# Altium footprint library ST-Microelectronics Footprints.PcbLib: 320 footprints (part 6 of 20)
Each footprint in its own frame and in the unit in brackets; x right, y up, seen from the top. Pads: shape width x height; smd on the part's side, far side on the other; paste and mask are expansions set on the pad; w line width, h text height; cw(c..) or ccw(c..) is an arc to the next point about the centre after c.
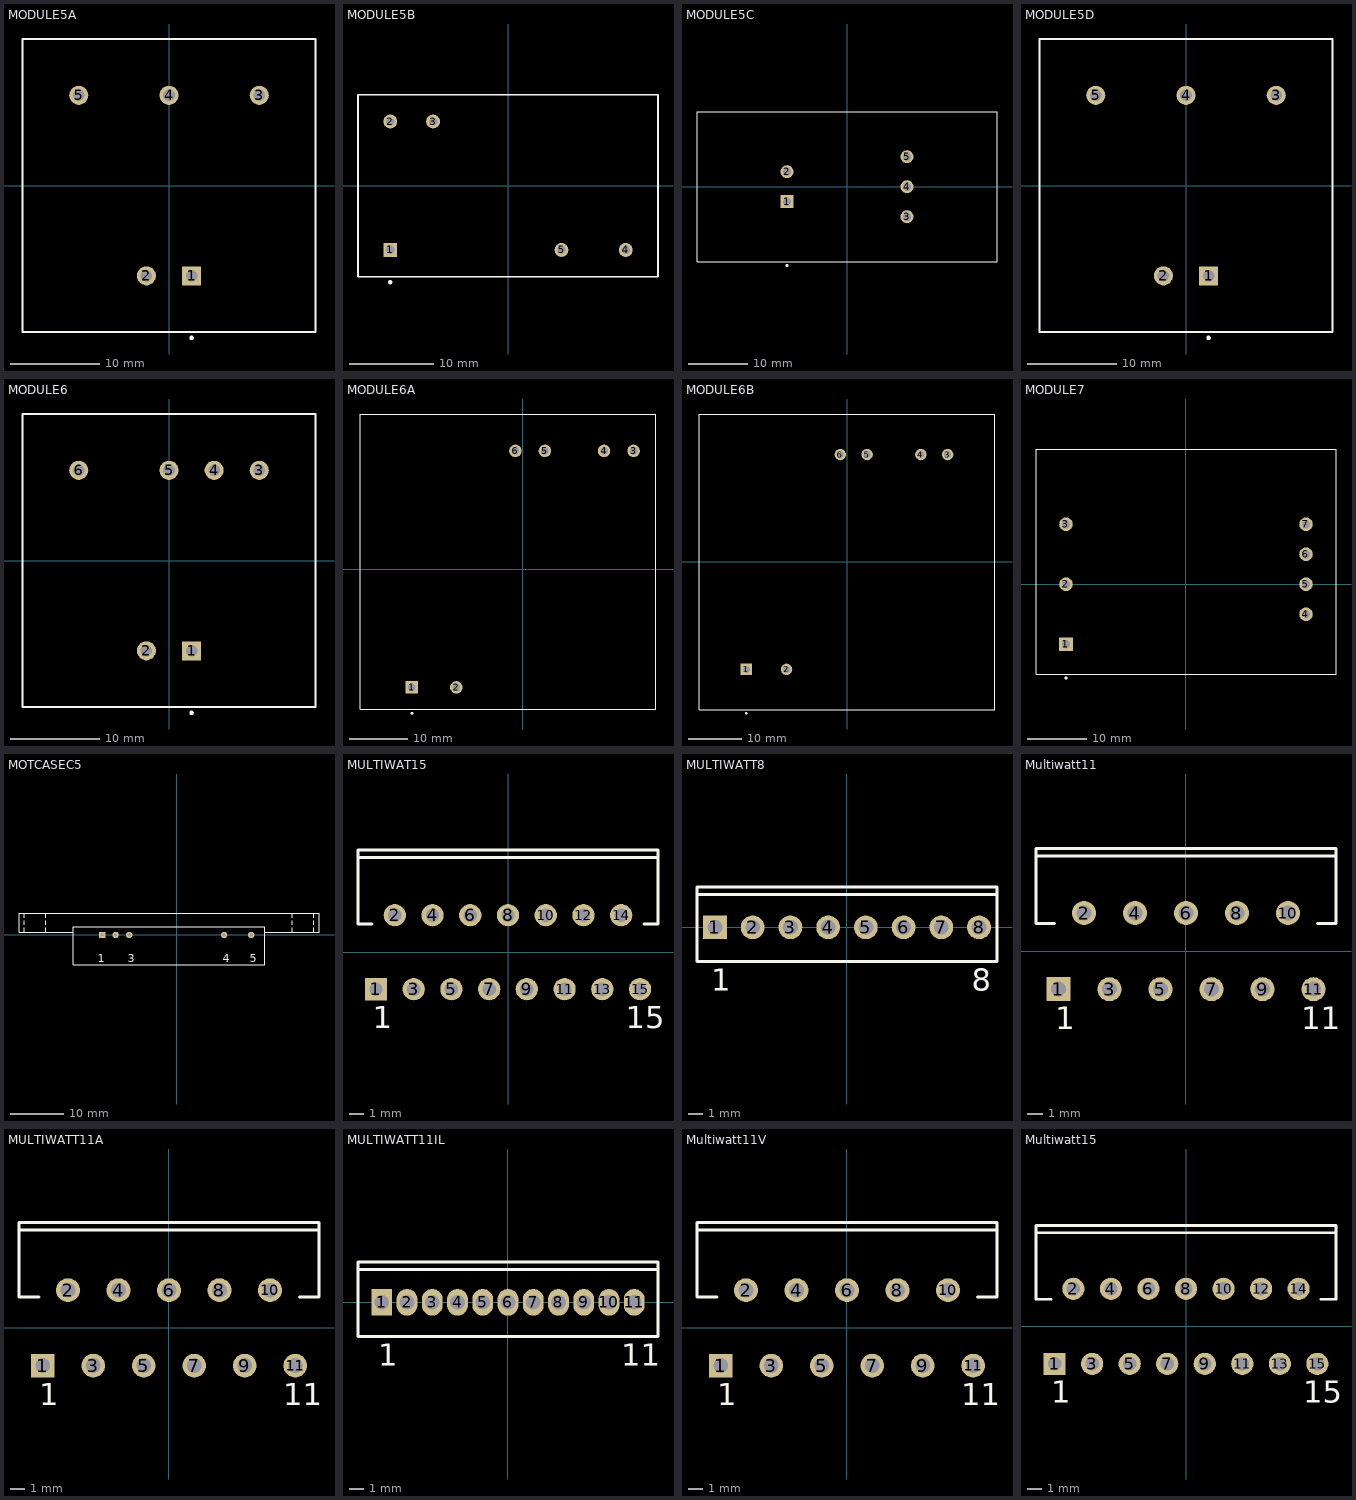
[diagram p5: the footprints below, top view; thin cyan lines are the x and y axes]

## MODULE5A [mm] "DIP; 5 Round Pins; Row Space 20.32 mm; Pitch 2.54 mm"
height 12.7
pads (5):
  rect 2.15x2.15 hole 1.3: 1(2.54,-10.16)
  round 2.15 hole 1.3: 2(-2.54,-10.16) 3(10.16,10.16) 4(0,10.16) 5(-10.16,10.16)
Top Overlay:
  circle w0.25: c2.54,-17.15 r0.125
  lines w0.2: -16.5,-16.5 16.5,-16.5 16.5,16.5 -16.5,16.5 -16.5,-16.5

## MODULE5B [mm] "DIP; 5 Round Pins; Row Space 15.24 mm; Pitch 2.54 mm"
height 14
pads (5):
  rect 1.65x1.65 hole 1: 1(-13.97,-7.62)
  round 1.65 hole 1: 2(-13.97,7.62) 3(-8.89,7.62) 4(13.97,-7.62) 5(6.35,-7.62)
Top Overlay:
  circle w0.25: c-13.97,-11.45 r0.125
  lines w0.2: -17.8,-10.8 17.8,-10.8 17.8,10.8 -17.8,10.8 -17.8,-10.8

## MODULE5C [mm] "DIP; 5 Round Pins; Row Space 20.32 mm; Pitch 2.54 mm"
height 12
pads (5):
  rect 2.2x2.2 hole 1.4: 1(-10.16,-2.54)
  round 2.2 hole 1.4: 2(-10.16,2.54) 3(10.16,-5.08) 4(10.16,0) 5(10.16,5.08)
Top Overlay:
  circle w0.25: c-10.16,-13.35 r0.125
  lines w0.2: -25.4,-12.7 -25.4,12.7 25.4,12.7 25.4,-12.7 -25.4,-12.7

## MODULE5D [mm] "DIP; 5 Round Pins; Row Space 20.32 mm; Pitch 2.54 mm"
height 16.5
pads (5):
  rect 2.15x2.15 hole 1.3: 1(2.54,-10.16)
  round 2.15 hole 1.3: 2(-2.54,-10.16) 3(10.16,10.16) 4(0,10.16) 5(-10.16,10.16)
Top Overlay:
  circle w0.25: c2.54,-17.15 r0.125
  lines w0.2: -16.5,-16.5 16.5,-16.5 16.5,16.5 -16.5,16.5 -16.5,-16.5

## MODULE6 [mm] "DIP; 6 Round Pins; Row Space 20.32 mm; Pitch 2.54 mm"
height 16.5
pads (6):
  rect 2.15x2.15 hole 1.3: 1(2.54,-10.16)
  round 2.15 hole 1.3: 2(-2.54,-10.16) 3(10.16,10.16) 4(5.08,10.16) 5(0,10.16) 6(-10.16,10.16)
Top Overlay:
  circle w0.25: c2.54,-17.15 r0.125
  lines w0.2: -16.5,-16.5 -16.5,16.5 16.5,16.5 16.5,-16.5 -16.5,-16.5

## MODULE6A [mm] "DIP; 6 Round Pins; Row Space 40.64 mm; Pitch 2.54 mm"
height 18
pads (6):
  rect 2.15x2.15 hole 1.3: 1(-19.05,-20.32)
  round 2.15 hole 1.3: 2(-11.43,-20.32) 3(19.05,20.32) 4(13.97,20.32) 5(3.81,20.32) 6(-1.27,20.32)
Top Overlay:
  circle w0.25: c-19.05,-24.78 r0.125
  lines w0.2: -27.94,-24.13 -27.94,26.67 22.86,26.67 22.86,-24.13 -27.94,-24.13

## MODULE6B [mm] "DIP; 6 Round Pins; Row Space 40.64 mm; Pitch 2.54 mm"
height 18
pads (6):
  rect 2.15x2.15 hole 1.3: 1(-19.05,-20.32)
  round 2.15 hole 1.3: 2(-11.43,-20.32) 3(19.05,20.32) 4(13.97,20.32) 5(3.81,20.32) 6(-1.27,20.32)
Top Overlay:
  circle w0.25: c-19.05,-28.65 r0.125
  lines w0.2: -28,-28 28,-28 28,28 -28,28 -28,-28

## MODULE7 [mm] "DIP; 7 Round Pins; Row Space 40.64 mm; Pitch 5.08 mm"
height 19
pads (7):
  rect 2.3x2.3 hole 1.4: 1(-20.32,-10.16)
  round 2.3 hole 1.4: 2(-20.32,0) 3(-20.32,10.16) 4(20.32,-5.08) 5(20.32,0) 6(20.32,5.08) 7(20.32,10.16)
Top Overlay:
  circle w0.25: c-20.32,-15.89 r0.125
  lines w0.2: -25.4,-15.24 25.4,-15.24 25.4,22.86 -25.4,22.86 -25.4,-15.24

## MOTCASEC5 [mm] "Rectangular Flange Mount, Thru-Hole; 5 Leads; Pitch 2.54 mm"
height 19.6
pads (5):
  rect 1.2x1.2 hole 0.6: 1(-13.97,0)
  round 1.2 hole 0.6: 2(-11.43,0) 3(-8.89,0) 4(8.89,0) 5(13.97,0)
Top Overlay:
  lines w0.2: -28.53,0.55 -28.53,1.35 ; -28.53,1.9 -28.53,2.7 ; -28.53,3.25 -28.53,4.05 ; -24.53,0.55 -24.53,1.35 ; -24.53,1.9 -24.53,2.7 ; -24.53,3.25 -24.53,4.05 ; -19.38,0.55 -29.53,0.55 -29.53,4.05 26.67,4.05 26.67,0.55 16.52,0.55 ; 21.67,0.55 21.67,1.35 ; 21.67,1.9 21.67,2.7 ; 21.67,3.25 21.67,4.05 ; 25.67,0.55 25.67,1.35 ; 25.67,1.9 25.67,2.7 ; 25.67,3.25 25.67,4.05 ; -19.38,-5.55 16.52,-5.55 16.52,1.55 -19.38,1.55 -19.38,-5.55
  text "1" at -14.732,-5.08 h1.5
  text "3" at -9.144,-5.08 h1.5
  text "4" at 8.636,-5.08 h1.5
  text "5" at 13.716,-5.08 h1.5

## MULTIWAT15 [mm] "TO, Thru-Hole, Vertical, Heatsink Mounted; 15 Bent Staggered Leads; Pitch 1.27 mm"
height 21
pads (15):
  rect 1.5x1.5 hole 0.9: 1(-8.89,-2.49)
  round 1.5 hole 0.9: 2(-7.62,2.49) 3(-6.35,-2.49) 4(-5.08,2.49) 5(-3.81,-2.49) 6(-2.54,2.49) 7(-1.27,-2.49) 8(0,2.49) 9(1.27,-2.49) 10(2.54,2.49) 11(3.81,-2.49) 12(5.08,2.49) 13(6.35,-2.49) 14(7.62,2.49) 15(8.89,-2.49)
Top Overlay:
  lines w0.2: -10.1,6.39 10.1,6.39 ; -9.144,1.89 -10.1,1.89 -10.1,6.89 10.1,6.89 10.1,1.89 9.144,1.89
  text "15" at 7.94,-5.115 h1.5
  text "1" at -9.12,-5.115 h1.5

## MULTIWATT8 [mm] "TO, Thru-Hole, Vertical, Heatsink Mounted; 8 In-Line Leads; Pitch 2.54 mm"
height 20.5
pads (8):
  rect 1.6x1.6 hole 1: 1(-8.89,0)
  round 1.6 hole 1: 2(-6.35,0) 3(-3.81,0) 4(-1.27,0) 5(1.27,0) 6(3.81,0) 7(6.35,0) 8(8.89,0)
Top Overlay:
  lines w0.2: -10.1,2.2 10.1,2.2 ; -10.1,-2.3 10.1,-2.3 10.1,2.7 -10.1,2.7 -10.1,-2.3
  text "1" at -9.14,-4.275 h1.5
  text "8" at 8.39,-4.275 h1.5

## Multiwatt11 [mm] "TO, Thru-Hole, Vertical, Heatsink Mounted; 11 Bent Staggered Leads; Pitch 1.7 mm"
height 21
pads (11):
  rect 1.6x1.6 hole 1: 1(-8.5,-2.54)
  round 1.6 hole 1: 2(-6.8,2.54) 3(-5.1,-2.54) 4(-3.4,2.54) 5(-1.7,-2.54) 6(0,2.54) 7(1.7,-2.54) 8(3.4,2.54) 9(5.1,-2.54) 10(6.8,2.54) 11(8.5,-2.54)
Top Overlay:
  lines w0.2: -10,6.33 9.9,6.33 ; -8.754,1.83 -10,1.83 -10,6.83 10,6.83 10,1.83 8.774,1.83
  text "1" at -8.73,-5.215 h1.5
  text "11" at 7.67,-5.215 h1.5

## MULTIWATT11A [mm] "TO, Thru-Hole, Vertical, Heatsink Mounted; 11 Bent Staggered Leads; Pitch 1.7 mm"
height 21
pads (11):
  rect 1.6x1.6 hole 1: 1(-8.5,-2.54)
  round 1.6 hole 1: 2(-6.8,2.54) 3(-5.1,-2.54) 4(-3.4,2.54) 5(-1.7,-2.54) 6(0,2.54) 7(1.7,-2.54) 8(3.4,2.54) 9(5.1,-2.54) 10(6.8,2.54) 11(8.5,-2.54)
Top Overlay:
  lines w0.2: -10.1,6.59 10.1,6.59 ; -8.754,2.09 -10.1,2.09 -10.1,7.09 10.1,7.09 10.1,2.09 8.774,2.09
  text "11" at 7.69,-5.215 h1.5
  text "1" at -8.73,-5.215 h1.5

## MULTIWATT11IL [mm] "TO, Thru-Hole, Vertical, Heatsink Mounted; 11 In-Line Leads; Pitch 1.70 mm"
height 17.8
pads (11):
  rect 1.4x1.8 hole 1: 1(-8.5,0)
  oval 1.4x1.8 hole 1: 2(-6.8,0) 3(-5.1,0) 4(-3.4,0) 5(-1.7,0) 6(0,0) 7(1.7,0) 8(3.4,0) 9(5.1,0) 10(6.8,0) 11(8.5,0)
Top Overlay:
  lines w0.2: -10.1,2.2 10.1,2.2 ; -10.1,-2.3 10.1,-2.3 10.1,2.7 -10.1,2.7 -10.1,-2.3
  text "1" at -8.75,-4.275 h1.5
  text "11" at 7.625,-4.275 h1.5

## Multiwatt11V [mm] "TO, Thru-Hole, Vertical, Heatsink Mounted; 11 Bent Staggered Leads; Pitch 1.7 mm"
height 21
pads (11):
  rect 1.6x1.6 hole 1: 1(-8.5,-2.54)
  round 1.6 hole 1: 2(-6.8,2.54) 3(-5.1,-2.54) 4(-3.4,2.54) 5(-1.7,-2.54) 6(0,2.54) 7(1.7,-2.54) 8(3.4,2.54) 9(5.1,-2.54) 10(6.8,2.54) 11(8.5,-2.54)
Top Overlay:
  lines w0.2: -10.1,6.59 10.1,6.59 ; -8.754,2.09 -10.1,2.09 -10.1,7.09 10.1,7.09 10.1,2.09 8.774,2.09
  text "11" at 7.69,-5.215 h1.5
  text "1" at -8.73,-5.215 h1.5

## Multiwatt15 [mm] "TO, Thru-Hole, Vertical, Heatsink Mounted; 15 Bent Staggered Leads; Pitch 1.27 mm"
height 21
pads (15):
  rect 1.5x1.5 hole 0.9: 1(-8.89,-2.54)
  round 1.5 hole 0.9: 2(-7.62,2.54) 3(-6.35,-2.54) 4(-5.08,2.54) 5(-3.81,-2.54) 6(-2.54,2.54) 7(-1.27,-2.54) 8(0,2.54) 9(1.27,-2.54) 10(2.54,2.54) 11(3.81,-2.54) 12(5.08,2.54) 13(6.35,-2.54) 14(7.62,2.54) 15(8.89,-2.54)
Top Overlay:
  lines w0.2: -10.15,6.33 10.05,6.33 ; -9.144,1.83 -10.15,1.83 -10.15,6.83 10.15,6.83 10.15,1.83 9.144,1.83
  text "15" at 7.95,-5.165 h1.5
  text "1" at -9.12,-5.165 h1.5